# Altium footprint library 5499913-1.PcbLib: 1 footprints
Each footprint in its own frame and in the unit in brackets; x right, y up, seen from the top. Pads: shape width x height; smd on the part's side, far side on the other; paste and mask are expansions set on the pad; w line width, h text height; cw(c..) or ccw(c..) is an arc to the next point about the centre after c.
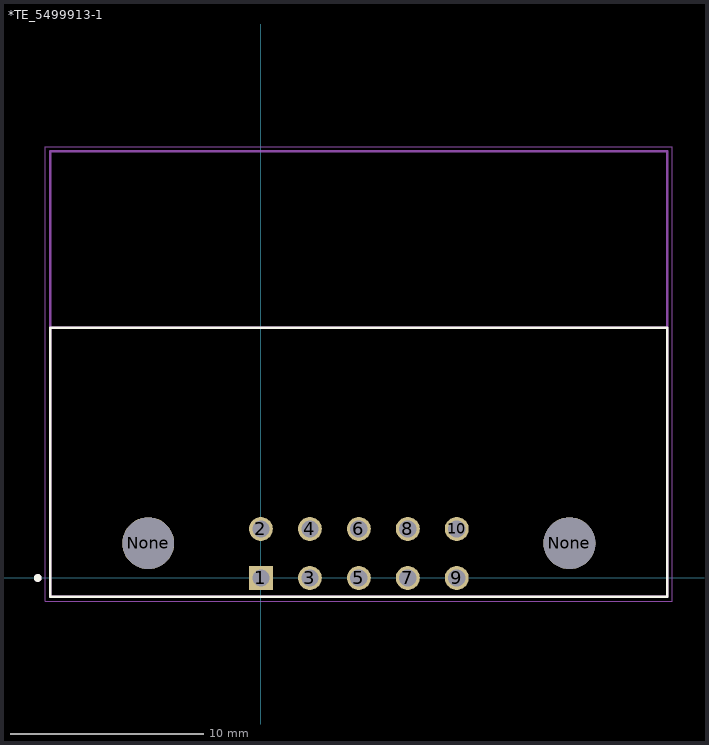
[diagram p0: the footprint, top view; thin cyan lines are the x and y axes]

## *TE_5499913-1 [mm]
pads (12):
  rect 1.24x1.24 hole 0.89: 1(0,0)
  round 1.24 hole 0.89: 2(0,2.54) 3(2.54,0) 4(2.54,2.54) 5(5.08,0) 6(5.08,2.54) 7(7.62,0) 8(7.62,2.54) 9(10.16,0) 10(10.16,2.54)
  round 2.69 hole 2.69 unplated: None(-5.84,1.8) None(16,1.8)
Top Overlay:
  circle w0.2: c-11.57,0 r0.1
  lines w0.127: -10.92,-0.97 21.08,-0.97 21.08,12.97 -10.92,12.97 -10.92,-0.97
Mechanical 4:
  circle w0.2: c-11.57,0 r0.1
  circle w0.2: c-11.57,0 r0.1
  lines w0.127: -10.92,-0.97 -10.92,22.12 ; -10.92,-0.97 21.08,-0.97 ; -10.92,-0.97 -10.92,12.97 ; -10.92,-0.97 -10.92,22.12 ; -10.92,-0.97 21.08,-0.97 ; -10.92,-0.97 -10.92,12.97 ; -10.92,12.97 21.08,12.97 ; -10.92,12.97 21.08,12.97 ; -10.92,22.12 21.08,22.12 ; -10.92,22.12 21.08,22.12 ; 21.08,-0.97 21.08,22.12 ; 21.08,-0.97 21.08,12.97 ; 21.08,-0.97 21.08,22.12 ; 21.08,-0.97 21.08,12.97
Courtyard Bottom:
  lines w0.05: -11.17,-1.22 21.33,-1.22 21.33,22.37 -11.17,22.37 -11.17,-1.22